# Altium schematic symbol library Conn_JST_SHR-03V-S-B_eec.SchLib: 1 symbol
Pins are listed as number, name and electrical type; pins without a type are passive.

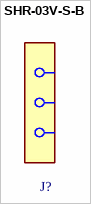
[diagram p0: symbol SHR-03V-S-B]

## SHR-03V-S-B
designator J?  (value not drawn)